# Altium footprint library MOLEX PICO-SPOX 4-way vertical 87437-0443.PcbLib: 1 footprints
Each footprint in its own frame and in the unit in brackets; x right, y up, seen from the top. Pads: shape width x height; smd on the part's side, far side on the other; paste and mask are expansions set on the pad; w line width, h text height; cw(c..) or ccw(c..) is an arc to the next point about the centre after c.
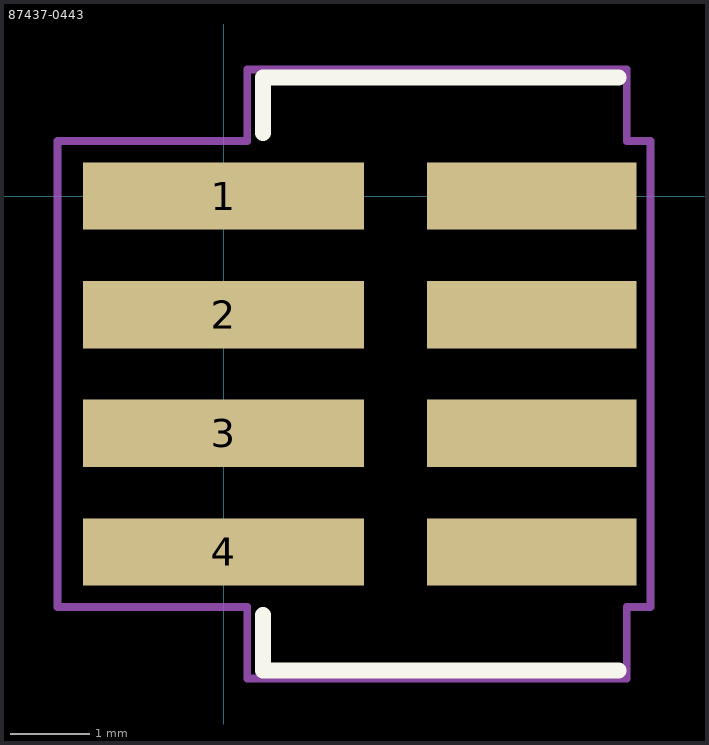
[diagram p0: the footprint, top view; thin cyan lines are the x and y axes]

## 87437-0443 [mm] "MOLEX - 87437-0443 - HEADER, PICO-SPOX, 4WAY"
height 6.1
pads (8):
  rect 3.55x0.85 smd: 1(0,0) 2(0,-1.5) 3(0,-3) 4(0,-4.5)
  rect 2.65x0.85 smd: ""(3.9,-4.5) ""(3.9,-3) ""(3.9,-1.5) ""(3.9,0)
Top Overlay:
  lines w0.2: 0.5,-5.3 0.5,-6 5,-6 ; 0.5,0.8 0.5,1.5 5,1.5
Mechanical 15:
  lines w0.1: -2.1,-5.2 0.3,-5.2 0.3,-6.1 5,-6.1 5.1,-6.1 5.1,-5.2 5.4,-5.2 5.4,0.7 5.1,0.7 5.1,1.6 5,1.6 0.3,1.6 0.3,0.7 -2.1,0.7 -2.1,-5.2
3D body: height 5.77, standoff 0.02, extent -0.95,-5.9 5.05,1.4